# EAGLE library part 693071010811 (library Wuerth_Elektronik_eiCan_Communication_Connectors_v2.2)
WR-CRD MICRO SD CARD CONNECTOR PUSH & PUSH WITH CARD DETECTION 8PINS
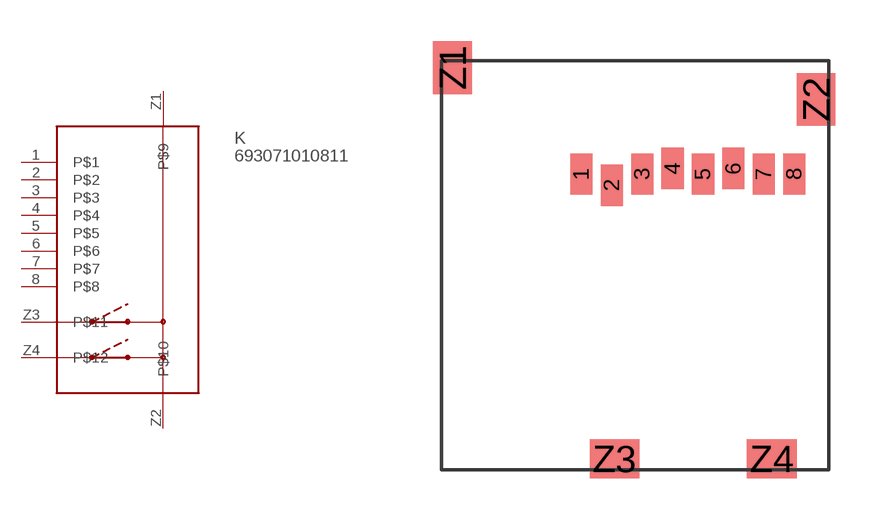
[diagram p35: symbol with the pads of 693071010811; footprint 693071010811]

Designator prefix K

## 693071010811  [693071010811]
1  P$1
2  P$2
3  P$3
4  P$4
5  P$5
6  P$6
7  P$7
8  P$8
Z1  P$9
Z2  P$10
Z3  P$11
Z4  P$12

## Footprint 693071010811 (pad centres in mm)
WR-CRD MICRO SD CARD CONNECTOR PUSH & PUSH WITH CARD DETECTION 8PINS
smd 0.8 x 1.5: 1 0,0; 2 1.1,-0.4; 3 2.2,0; 4 3.3,0.2; 5 4.4,0; 6 5.5,0.2; 7 6.6,0; 8 7.7,0
smd 1.4 x 1.9: Z1 -4.66,3.85; Z2 8.49,2.7
smd 1.8 x 1.4: Z3 1.2,-10.3; Z4 6.89,-10.3